# Altium schematic symbol library TPH1R403NL.SCHLIB: 1 symbol
Pins are listed as number, name and electrical type; pins without a type are passive.

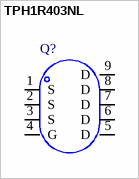
[diagram p0: symbol TPH1R403NL]

## TPH1R403NL
designator Q?
Manufacturer: TOSHIBA(东芝); Symbol: TPH1R403NL; Add into BOM: yes; Type: N沟道; Drain Source Voltage (Vdss): 30V; Continuous Drain Current (Id): 150A; Power Dissipation (Pd): 64W; Drain Source On Resistance (RDS(on)@Vgs,Id): 1.4mΩ@10V,30A; Gate Threshold Voltage (Vgs(th)@Id): 2.3V@500A; Device: TPH1R403NL; LCSC Part Name: N沟道 30V 150A; Supplier Part: C83440; Manufacturer Part: TPH1R403NL; Supplier Footprint: SOP Advance; JLCPCB Part Class: Extended Part; Datasheet: https://atta.szlcsc.com/upload/public/pdf/source/20170908/C83440_1504870121708958077.pdf; Supplier: LCSC; Convert to PCB: yes
footprint DSOP-8_L5.0-W5.0-P1.27-EP-TL
3D model DSOP-8_L5.0-W5.0-H0.7-LS6.0-P1.27
pins: 1 S, 2 S, 3 S, 4 G, 5 D, 6 D, 7 D, 8 D, 9 D